# EAGLE library part LINEAR_OPA2* (library Pakfav7)
Dual Operational Amplifier Low Power, Single-Supply, Rail-To-Rail Operational Amplifier Source: http://focus.ti.com/lit/ds/symlink/opa2345.pdf http://focus.ti.com .. opa241.pdf http://focus.ti.com/lit/ds/symlink/opa2134.pdf
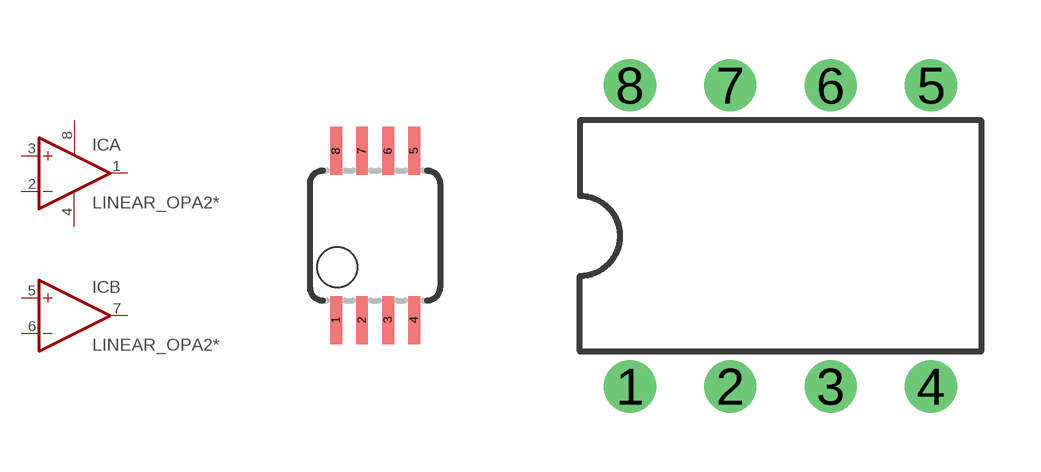
[diagram p1: symbol with the pads of LINEAR_MSOP08; footprints LINEAR_MSOP08, LINEAR_DIL08]

Designator prefix IC; gates A=LINEAR_OPAMP+- B=LINEAR_OPAMP

## LINEAR_OPA2E, LINEAR_OPA2344E, LINEAR_OPA2345E  [LINEAR_MSOP08]
1  A:OUT  out
2  A:-IN  in
3  A:+IN  in
4  A:V-  pwr
5  B:+IN  in
6  B:-IN  in
7  B:OUT  out
8  A:V+  pwr

## LINEAR_OPA2P, LINEAR_OPA2344P  [LINEAR_DIL08]
Pads as for LINEAR_MSOP08

## LINEAR_OPA2PA, LINEAR_OPA2134PA, LINEAR_OPA2241PA, LINEAR_OPA2251PA  [LINEAR_DIL08]
Pads as for LINEAR_MSOP08

## LINEAR_OPA2U, LINEAR_OPA2344U, LINEAR_OPA2345U  [LINEAR_SO08]
Pads as for LINEAR_MSOP08

## LINEAR_OPA2UA, LINEAR_OPA2134UA, LINEAR_OPA2241UA, LINEAR_OPA2251UA  [LINEAR_SO08]
Pads as for LINEAR_MSOP08

## Footprint LINEAR_MSOP08 (pad centres in mm)
Mini Small Outline Package
smd 0.3 x 1.2: 1 -0.976,-2.113; 2 -0.326,-2.113; 3 0.324,-2.113; 4 0.974,-2.113; 5 0.974,2.112; 6 0.324,2.112; 7 -0.326,2.112; 8 -0.976,2.112

## Footprint LINEAR_DIL08 (pad centres in mm)
Dual In Line Package
drill 0.813 pad 1.27: 1 -3.81,-3.81; 2 -1.27,-3.81; 3 1.27,-3.81; 4 3.81,-3.81; 5 3.81,3.81; 6 1.27,3.81; 7 -1.27,3.81; 8 -3.81,3.81

## Footprint LINEAR_SO08 (pad centres in mm)
Small Outline Package 8 NS Package M08A
smd 0.6 x 2.2: 1 -1.905,-2.6; 2 -0.635,-2.6; 3 0.635,-2.6; 4 1.905,-2.6; 5 1.905,2.6; 6 0.635,2.6; 7 -0.635,2.6; 8 -1.905,2.6